# EAGLE library part HIROSE-70PIN-HEADER (library UsefulConnectors)
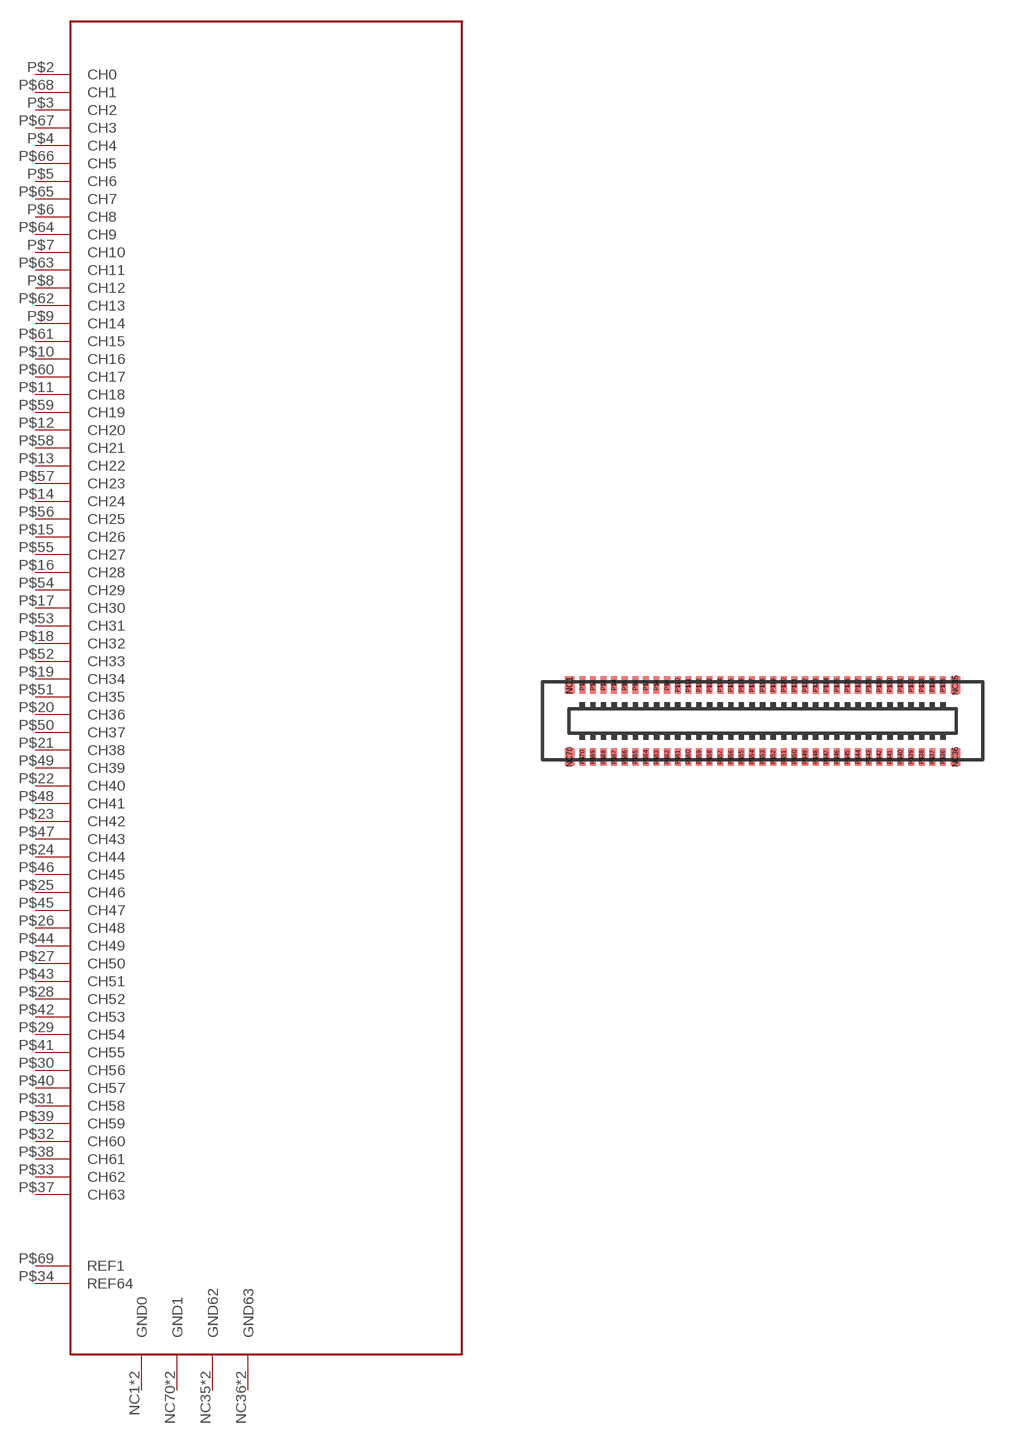
[diagram p10: symbol with the pads of DF40C-70DP-0.4V; footprint DF40C-70DP-0.4V]

Designator prefix -

## HIROSE-70PIN-HEADER  [DF40C-70DP-0.4V]
NC1  GND0  pwr
NC35  GND62  pwr
NC36  GND63  pwr
NC70  GND1  pwr
P$1  GND0  pwr
P$2  CH0  in
P$3  CH2  in
P$4  CH4  in
P$5  CH6  in
P$6  CH8  in
P$7  CH10  in
P$8  CH12  in
P$9  CH14  in
P$10  CH16  in
P$11  CH18  in
P$12  CH20  in
P$13  CH22  in
P$14  CH24  in
P$15  CH26  in
P$16  CH28  in
P$17  CH30  in
P$18  CH32  in
P$19  CH34  in
P$20  CH36  in
P$21  CH38  in
P$22  CH40  in
P$23  CH42  in
P$24  CH44  in
P$25  CH46  in
P$26  CH48  in
P$27  CH50  in
P$28  CH52  in
P$29  CH54  in
P$30  CH56  in
P$31  CH58  in
P$32  CH60  in
P$33  CH62  in
P$34  REF64  in
P$35  GND62  pwr
P$36  GND63  pwr
P$37  CH63  in
P$38  CH61  in
P$39  CH59  in
P$40  CH57  in
P$41  CH55  in
P$42  CH53  in
P$43  CH51  in
P$44  CH49  in
P$45  CH47  in
P$46  CH45  in
P$47  CH43  in
P$48  CH41  in
P$49  CH39  in
P$50  CH37  in
P$51  CH35  in
P$52  CH33  in
P$53  CH31  in
P$54  CH29  in
P$55  CH27  in
P$56  CH25  in
P$57  CH23  in
P$58  CH21  in
P$59  CH19  in
P$60  CH17  in
P$61  CH15  in
P$62  CH13  in
P$63  CH11  in
P$64  CH9  in
P$65  CH7  in
P$66  CH5  in
P$67  CH3  in
P$68  CH1  in
P$69  REF1  in
P$70  GND1  pwr

## HIROSE-70PIN-HEADER-SEQUENTIAL  [DF40C-70DP-0.4V]
NC1  GND0  pwr
NC35  GND62  pwr
NC36  GND63  pwr
NC70  GND1  pwr
P$1  GND0  pwr
P$2  CH0  in
P$3  CH1  in
P$4  CH2  in
P$5  CH3  in
P$6  CH4  in
P$7  CH5  in
P$8  CH6  in
P$9  CH7  in
P$10  CH8  in
P$11  CH9  in
P$12  CH10  in
P$13  CH11  in
P$14  CH12  in
P$15  CH13  in
P$16  CH14  in
P$17  CH15  in
P$18  CH16  in
P$19  CH17  in
P$20  CH18  in
P$21  CH19  in
P$22  CH20  in
P$23  CH21  in
P$24  CH22  in
P$25  CH23  in
P$26  CH24  in
P$27  CH25  in
P$28  CH26  in
P$29  CH27  in
P$30  CH28  in
P$31  CH29  in
P$32  CH30  in
P$33  CH31  in
P$34  REF64  in
P$35  GND62  pwr
P$36  GND63  pwr
P$37  CH32  in
P$38  CH33  in
P$39  CH34  in
P$40  CH35  in
P$41  CH36  in
P$42  CH37  in
P$43  CH38  in
P$44  CH39  in
P$45  CH40  in
P$46  CH41  in
P$47  CH42  in
P$48  CH43  in
P$49  CH44  in
P$50  CH45  in
P$51  CH46  in
P$52  CH47  in
P$53  CH48  in
P$54  CH49  in
P$55  CH50  in
P$56  CH51  in
P$57  CH52  in
P$58  CH53  in
P$59  CH54  in
P$60  CH55  in
P$61  CH56  in
P$62  CH57  in
P$63  CH58  in
P$64  CH59  in
P$65  CH60  in
P$66  CH61  in
P$67  CH62  in
P$68  CH63  in
P$69  REF1  in
P$70  GND1  pwr

## Footprint DF40C-70DP-0.4V (pad centres in mm)
smd 0.35 x 0.66: NC1 -7.275,1.355; NC35 7.275,1.355; NC36 7.275,-1.355; NC70 -7.275,-1.355
smd 0.23 x 0.66: P$1 -6.8,1.355; P$2 -6.4,1.355; P$3 -6,1.355; P$4 -5.6,1.355; P$5 -5.2,1.355; P$6 -4.8,1.355; P$7 -4.4,1.355; P$8 -4,1.355; P$9 -3.6,1.355; P$10 -3.2,1.355; P$11 -2.8,1.355; P$12 -2.4,1.355; P$13 -2,1.355; P$14 -1.6,1.355; P$15 -1.2,1.355; P$16 -0.8,1.355; P$17 -0.4,1.355; P$18 0,1.355; P$19 0.4,1.355; P$20 0.8,1.355; P$21 1.2,1.355; P$22 1.6,1.355; P$23 2,1.355; P$24 2.4,1.355; P$25 2.8,1.355; P$26 3.2,1.355; P$27 3.6,1.355; P$28 4,1.355; P$29 4.4,1.355; P$30 4.8,1.355; P$31 5.2,1.355; P$32 5.6,1.355; P$33 6,1.355; P$34 6.4,1.355; P$35 6.8,1.355; P$36 6.8,-1.355; P$37 6.4,-1.355; P$38 6,-1.355; P$39 5.6,-1.355; P$40 5.2,-1.355; P$41 4.8,-1.355; P$42 4.4,-1.355; P$43 4,-1.355; P$44 3.6,-1.355; P$45 3.2,-1.355; P$46 2.8,-1.355; P$47 2.4,-1.355; P$48 2,-1.355; P$49 1.6,-1.355; P$50 1.2,-1.355; P$51 0.8,-1.355; P$52 0.4,-1.355; P$53 0,-1.355; P$54 -0.4,-1.355; P$55 -0.8,-1.355; P$56 -1.2,-1.355; P$57 -1.6,-1.355; P$58 -2,-1.355; P$59 -2.4,-1.355; P$60 -2.8,-1.355; P$61 -3.2,-1.355; P$62 -3.6,-1.355; P$63 -4,-1.355; P$64 -4.4,-1.355; P$65 -4.8,-1.355; P$66 -5.2,-1.355; P$67 -5.6,-1.355; P$68 -6,-1.355; P$69 -6.4,-1.355; P$70 -6.8,-1.355